# Altium schematic symbol library OPA GOST.SchLib: 12 symbols
Pins are listed as number, name and electrical type; pins without a type are passive.

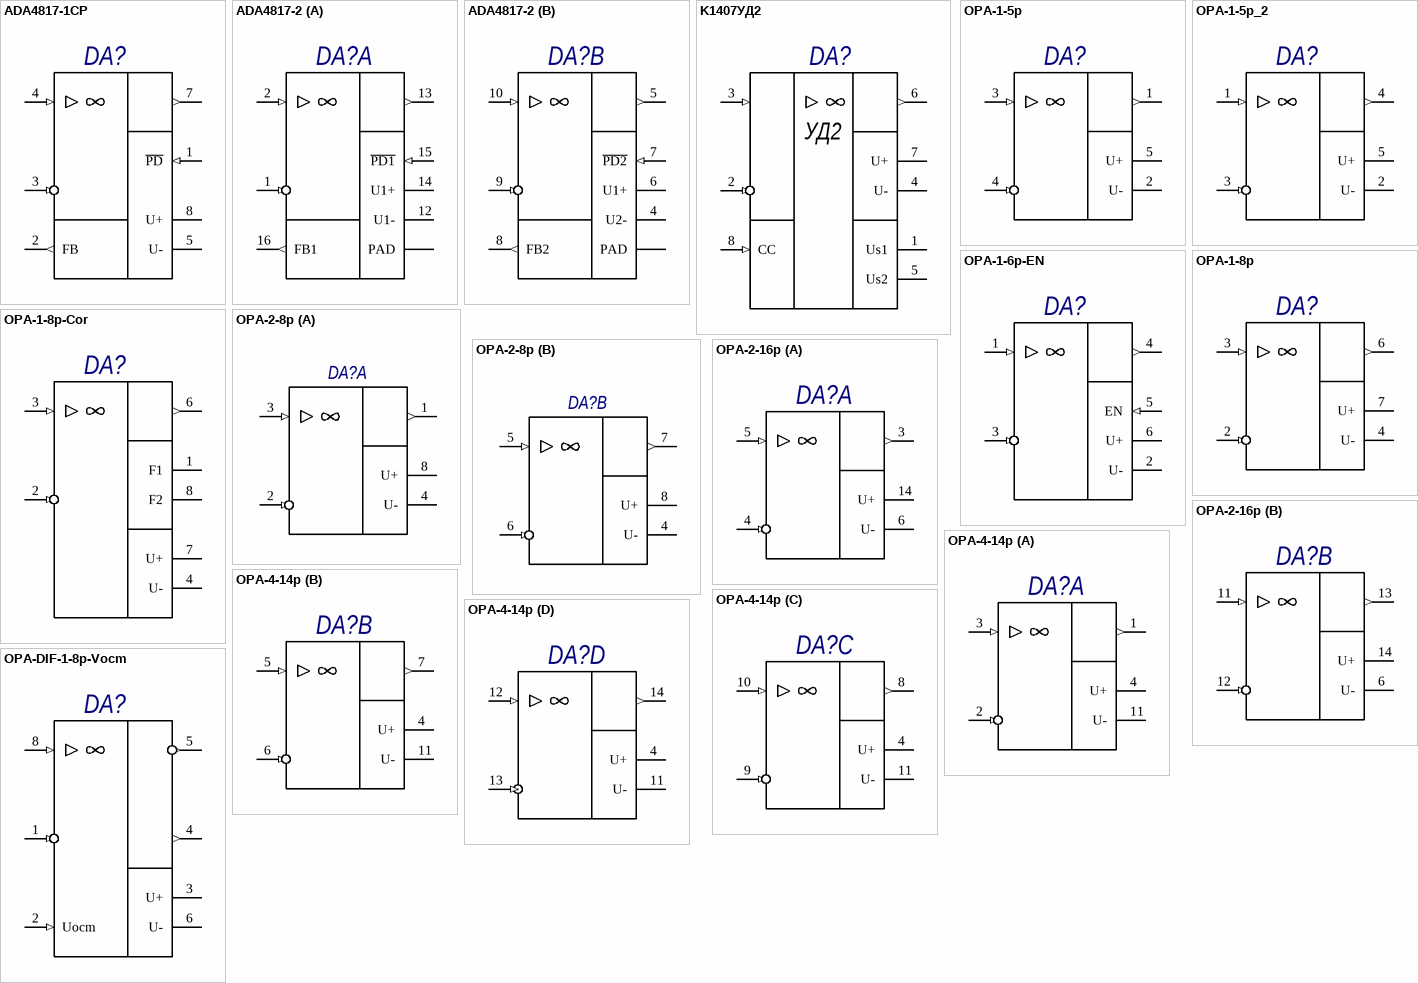
[diagram p0: symbols ADA4817-1CP to OPA-DIF-1-8p-Vocm]

## ADA4817-1CP
designator DA?
Published: 19.12.2015; Publisher: Andrew Danich; Type: Микросхема
pins: 1 ~{PD} (in) "Power Down", 2 FB (out) "Выход", 3 IN- (in) "Вход инверсный", 4 IN+ (in) "Вход неинверсный", 5 U- (power) "Вывод питания от источника отрицательного напряжения", 7 OUT (out) "Выход", 8 U+ (power) "Вывод питания от источника положительного напряжения"

## ADA4817-2
designator DA?
Published: 19.12.2015; Publisher: Andrew Danich; Type: Микросхема
pins on every part: 17 PAD (power)
part A pins: 1 IN1- (in) "Вход инверсный", 2 IN1+ (in) "Вход неинверсный", 12 U1- (power) "Вывод питания от источника отрицательного напряжения", 13 OUT1 (out) "Выход", 14 U1+ (power) "Вывод питания от источника положительного напряжения", 15 ~{PD1} (in) "Power Down", 16 FB1 (out) "Выход"
part B pins: 4 U2- (power) "Вывод питания от источника отрицательного напряжения", 5 OUT2 (out) "Выход", 6 U1+ (power) "Вывод питания от источника положительного напряжения", 7 ~{PD2} (in) "Power Down", 8 FB2 (out) "Выход", 9 IN2- (in) "Вход инверсный", 10 IN2+ (in) "Вход неинверсный"

## K1407УД2
designator DA?
OPAType: УД2; Published: 19.08.2014; Publisher: Andrew Danich; Type: Микросхема
pins: 1 Us1, 2 IN- (in) "Вход инверсный", 3 IN+ (in) "Вход неинверсный", 4 U- (power) "Вывод питания от источника отрицательного напряжения", 5 Us2, 6 OUT (out) "Выход", 7 U+ (power) "Вывод питания от источника положительного напряжения", 8 CC (in)

## OPA-1-5p
designator DA?
Published: 11.04.2014; Publisher: Andrew Danich; Type: Микросхема
pins: 1 OUT (out) "Выход", 2 U- (power) "Вывод питания от источника отрицательного напряжения", 3 IN+ (in) "Вход неинверсный", 4 IN- (in) "Вход инверсный", 5 U+ (power) "Вывод питания от источника положительного напряжения"

## OPA-1-5p_2
designator DA?
Published: 11.04.2014; Publisher: Andrew Danich; Type: Микросхема
pins: 1 IN+ (in) "Вход неинверсный", 2 U- (power) "Вывод питания от источника отрицательного напряжения", 3 IN- (in) "Вход инверсный", 4 OUT (out) "Выход", 5 U+ (power) "Вывод питания от источника положительного напряжения"

## OPA-1-6p-EN
designator DA?
Published: 29.07.2015; Publisher: Andrew Danich; Type: Микросхема
pins: 1 IN+ (in) "Вход неинверсный", 2 U- (power) "Вывод питания от источника отрицательного напряжения", 3 IN- (in) "Вход инверсный", 4 OUT (out) "Выход", 5 EN (in) "Вход разрешения работы", 6 U+ (power) "Вывод питания от источника положительного напряжения"

## OPA-1-8p
designator DA?
Published: 01.01.2014; Publisher: Andrew Danich; Type: Микросхема
pins: 2 IN- (in) "Вход инверсный", 3 IN+ (in) "Вход неинверсный", 4 U- (power) "Вывод питания от источника отрицательного напряжения", 6 OUT (out) "Выход", 7 U+ (power) "Вывод питания от источника положительного напряжения"

## OPA-1-8p-Cor
designator DA?
Published: 29.07.2015; Publisher: Andrew Danich; Type: Микросхема
pins: 1 F1, 2 IN- (in) "Вход инверсный", 3 IN+ (in) "Вход неинверсный", 4 U- (power) "Вывод питания от источника отрицательного напряжения", 6 OUT (out) "Выход", 7 U+ (power) "Вывод питания от источника положительного напряжения", 8 F2

## OPA-2-8p
designator DA?
Published: 08.12.2013; Publisher: Andrew Danich; Type: Микросхема
pins on every part: 4 U- (power) "Вывод питания от источника отрицательного напряжения", 8 U+ (power) "Вывод питания от источника положительного напряжения"
part A pins: 1 OUT (out) "Выход", 2 IN- (in) "Вход инверсный", 3 IN+ (in) "Вход неинверсный"
part B pins: 5 IN+ (in) "Вход неинверсный", 6 IN- (in) "Вход инверсный", 7 OUT (out) "Выход"

## OPA-2-16p
designator DA?
Publisher: Andrew Danich; Type: Микросхема
pins on every part: 6 U- (power) "Вывод питания от источника отрицательного напряжения", 14 U+ (power) "Вывод питания от источника положительного напряжения"
part A pins: 3 OUT (out) "Выход", 4 IN- (in) "Вход инверсный", 5 IN+ (in) "Вход неинверсный"
part B pins: 11 IN+ (in) "Вход неинверсный", 12 IN- (in) "Вход инверсный", 13 OUT (out) "Выход"
1 alternate drawing of the same symbol

## OPA-4-14p
designator DA?
Published: 29.07.2015; Publisher: Andrew Danich; Type: Микросхема
pins on every part: 4 U+ (power) "Вывод питания от источника положительного напряжения", 11 U- (power) "Вывод питания от источника отрицательного напряжения"
part A pins: 1 OUT (out) "Выход", 2 IN- (in) "Вход инверсный", 3 IN+ (in) "Вход неинверсный"
part B pins: 5 IN+ (in) "Вход неинверсный", 6 IN- (in) "Вход инверсный", 7 OUT (out) "Выход"
part C pins: 8 OUT (out) "Выход", 9 IN- (in) "Вход инверсный", 10 IN+ (in) "Вход неинверсный"
part D pins: 12 IN+ (in) "Вход неинверсный", 13 IN- (in) "Вход инверсный", 14 OUT (out) "Выход"
1 alternate drawing of the same symbol

## OPA-DIF-1-8p-Vocm
designator DA?
Published: 29.07.2015; Publisher: Andrew Danich; Type: Микросхема
pins: 1 IN- (in) "Вход инверсный", 2 Uocm (in) "Вход смещения", 3 U+ (power) "Вывод питания от источника положительного напряжения", 4 OUT (out) "Выход неинверсный", 5 OUT (out) "Выход инверсный", 6 U- (power) "Вывод питания от источника отрицательного напряжения", 8 IN+ (in) "Вход неинверсный"